# EAGLE library part MCP3202 (library seds)
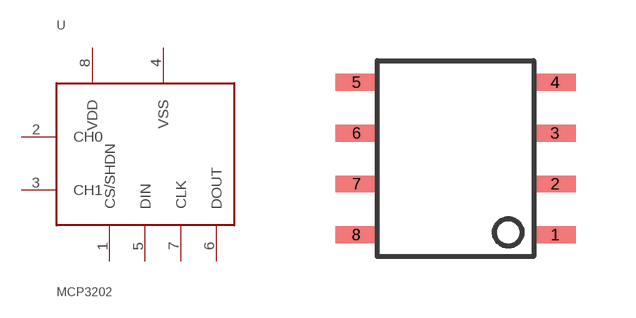
[diagram p0: symbol with the pads of MCP3202; footprint MCP3202]

Designator prefix -

## MCP3202  [MCP3202]
1  CS/SHDN
2  CH0
3  CH1
4  VSS
5  DIN
6  DOUT
7  CLK
8  VDD

## Footprint MCP3202 (pad centres in mm)
smd 1.055 x 0.42: 1 2.482,-1.905; 2 2.482,-0.635; 3 2.482,0.635; 4 2.482,1.905; 5 -2.482,1.905; 6 -2.482,0.635; 7 -2.482,-0.635; 8 -2.482,-1.905